# Altium schematic symbol library Tactile Switch.SchLib: 2 symbols
Pins are listed as number, name and electrical type; pins without a type are passive.

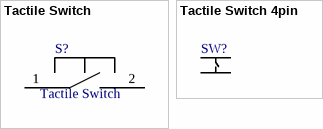
[diagram p0: symbols Tactile Switch to Tactile Switch 4pin]

## Tactile Switch
designator S?
footprint Tac.Sw. 90deg, L=3.5mm (SKHHLMA010)
pins: 1, 2

## Tactile Switch 4pin
designator SW?, comment Tactile switch  (value not drawn)
footprint Tactile 4pin
pins: 1 Pin, 2 Pin, 3 Pin, 4 Pin